# Altium footprint library pojacala.PcbLib: 2 footprints
Each footprint in its own frame and in the unit in brackets; x right, y up, seen from the top. Pads: shape width x height; smd on the part's side, far side on the other; paste and mask are expansions set on the pad; w line width, h text height; cw(c..) or ccw(c..) is an arc to the next point about the centre after c.
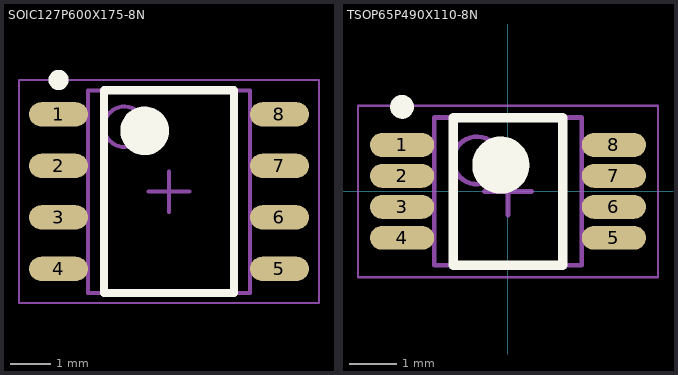
[diagram p0: the footprints below, top view; thin cyan lines are the x and y axes]

## SOIC127P600X175-8N [mm] "SOIC, 8-Leads, Body 4,90x3,90mm, Pitch 1,27mm, IPC Medium Density"
height 1.75
pads (8):
  oval 1.45x0.6 smd: 1(-19.075,13.335) 2(-19.075,12.065) 3(-19.075,10.795) 4(-19.075,9.525) 5(-13.625,9.525) 6(-13.625,10.795) 7(-13.625,12.065) 8(-13.625,13.335)
Top Overlay:
  circle w0.6: c-16.95,12.93 r0.3
  circle w0.25: c-19.075,14.185 r0.125
  lines w0.2: -17.95,8.93 -14.75,8.93 -14.75,13.93 -17.95,13.93 -17.95,8.93
Mechanical 13:
  circle w0.1: c-17.45,13.03 r0.5
  lines w0.1: -18.35,8.93 -14.35,8.93 -14.35,13.93 -18.35,13.93 -18.35,8.93
Mechanical 15:
  lines w0.05: -20.05,8.68 -12.65,8.68 -12.65,14.18 -20.05,14.18 -20.05,8.68
  lines w0.1: -16.85,11.43 -15.85,11.43 ; -16.35,10.93 -16.35,11.93
3D body "SOIC127P600X175-8N.step": height 1.75, standoff 0, extent -19.35,8.93 -13.35,13.93

## TSOP65P490X110-8N [mm] "TSOP, 8-Leads, Body 3,00x3,00mm, Pitch 0,65mm, IPC Medium Density"
height 1.1
pads (8):
  oval 1.35x0.5 smd: 1(-2.225,0.975) 2(-2.225,0.325) 3(-2.225,-0.325) 4(-2.225,-0.975) 5(2.225,-0.975) 6(2.225,-0.325) 7(2.225,0.325) 8(2.225,0.975)
Top Overlay:
  circle w0.6: c-0.15,0.55 r0.3
  circle w0.25: c-2.225,1.775 r0.125
  lines w0.2: -1.15,-1.55 1.15,-1.55 1.15,1.55 -1.15,1.55 -1.15,-1.55
Mechanical 13:
  circle w0.1: c-0.65,0.65 r0.5
  lines w0.1: -1.55,-1.55 1.55,-1.55 1.55,1.55 -1.55,1.55 -1.55,-1.55
Mechanical 15:
  lines w0.05: -3.15,-1.8 3.15,-1.8 3.15,1.8 -3.15,1.8 -3.15,-1.8
  lines w0.1: -0.5,0 0.5,0 ; 0,-0.5 0,0.5
3D body: height 1.1, standoff 0.1, extent -1.55,-1.55 1.55,1.55